# EAGLE library part FPF3042UCX (library Joule Expansion Board)
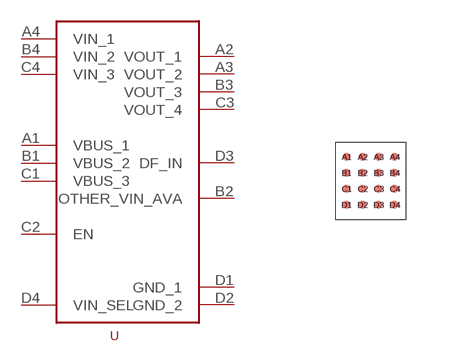
[diagram p14: symbol with the pads of 16-WLCSP; footprint 16-WLCSP]

Designator prefix -

## FPF3042UCX  [16-WLCSP]
A1  VBUS_1
A2  VOUT_1
A3  VOUT_2
A4  VIN_1
B1  VBUS_2
B2  OTHER_VIN_AVA
B3  VOUT_3
B4  VIN_2
C1  VBUS_3
C2  EN
C3  VOUT_4
C4  VIN_3
D1  GND_1
D2  GND_2
D3  DF_IN
D4  VIN_SEL

## Footprint 16-WLCSP (pad centres in mm)
smd 0.2 x 0.2: A1 -0.6,0.6; A2 -0.2,0.6; A3 0.2,0.6; A4 0.6,0.6; B1 -0.6,0.2; B2 -0.2,0.2; B3 0.2,0.2; B4 0.6,0.2; C1 -0.6,-0.2; C2 -0.2,-0.2; C3 0.2,-0.2; C4 0.6,-0.2; D1 -0.6,-0.6; D2 -0.2,-0.6; D3 0.2,-0.6; D4 0.6,-0.6